# EAGLE library part ADC:LTC2206-7(16-BIT,105MSPS) (library QuantumOptics)
LTC2206-7, ADC, 14- or 16-bit, 80/105MSPS, CMOS, opt scramble, opt dither http://cds.linear.com/docs/Datasheet/22076fb.pdf
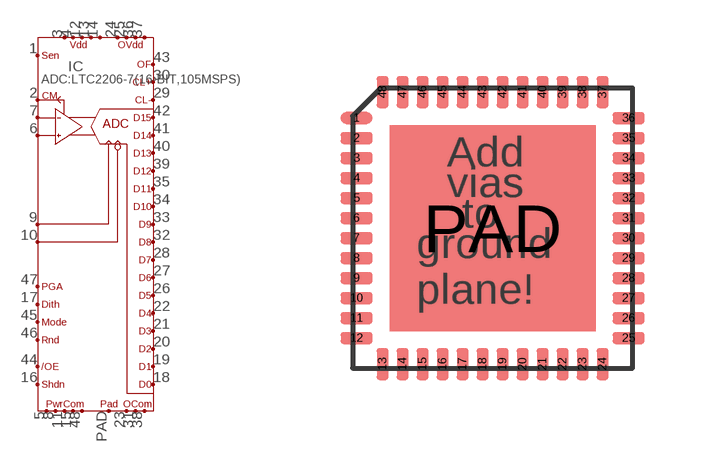
[diagram p119: symbol with the pads of QFN48; footprint QFN48]

Designator prefix IC

## ADC:LTC2206-7(16-BIT,105MSPS)  [QFN48]
1  VSENSE
2  VCM  out
3  VDD1
4  VDD2
5  COM1
6  IN+  in
7  IN-  in
8  COM2
9  ENC+  in
10  ENC-  in
11  COM3
12  VDD3
13  VDD4
14  VDD5
15  COM4
16  SHDN  in
17  DITH  in
18  D0  out
19  D1  out
20  D2  out
21  D3  out
22  D4  out
23  OGND1
24  OVDD1
25  OVDD2
26  D5  out
27  D6  out
28  D7  out
29  QCLK-  out
30  QCLK+  out
31  OGND2
32  D8  out
33  D9  out
34  D10  out
35  D11  out
36  OVDD3
37  OVDD4
38  OGND3
39  D12  out
40  D13  out
41  D14  out
42  D15  out
43  OF  out
44  /OE  in
45  MODE  in
46  RND  in
47  PGA  in
48  COM5
PAD  PAD

## Footprint QFN48 (pad centres in mm)
QFN-48, based on LTC2207, http://cds.linear.com/docs/Datasheet/22076fb.pdf
smd 0.8 x 0.3: 1 -3.4,2.75; 2 -3.4,2.25; 3 -3.4,1.75; 4 -3.4,1.25; 5 -3.4,0.75; 6 -3.4,0.25; 7 -3.4,-0.25; 8 -3.4,-0.75; 9 -3.4,-1.25; 10 -3.4,-1.75; 11 -3.4,-2.25; 12 -3.4,-2.75; 25 3.4,-2.75; 26 3.4,-2.25; 27 3.4,-1.75; 28 3.4,-1.25; 29 3.4,-0.75; 30 3.4,-0.25; 31 3.4,0.25; 32 3.4,0.75; 33 3.4,1.25; 34 3.4,1.75; 35 3.4,2.25; 36 3.4,2.75
smd 0.3 x 0.8: 13 -2.75,-3.4; 14 -2.25,-3.4; 15 -1.75,-3.4; 16 -1.25,-3.4; 17 -0.75,-3.4; 18 -0.25,-3.4; 19 0.25,-3.4; 20 0.75,-3.4; 21 1.25,-3.4; 22 1.75,-3.4; 23 2.25,-3.4; 24 2.75,-3.4; 37 2.75,3.4; 38 2.25,3.4; 39 1.75,3.4; 40 1.25,3.4; 41 0.75,3.4; 42 0.25,3.4; 43 -0.25,3.4; 44 -0.75,3.4; 45 -1.25,3.4; 46 -1.75,3.4; 47 -2.25,3.4; 48 -2.75,3.4
smd 5.15 x 5.15: PAD 0,0